# Altium footprint library 2440PCBV3.PcbLib: 58 footprints (part 3 of 4)
Each footprint in its own frame and in the unit in brackets; x right, y up, seen from the top. Pads: shape width x height; smd on the part's side, far side on the other; paste and mask are expansions set on the pad; w line width, h text height; cw(c..) or ccw(c..) is an arc to the next point about the centre after c.
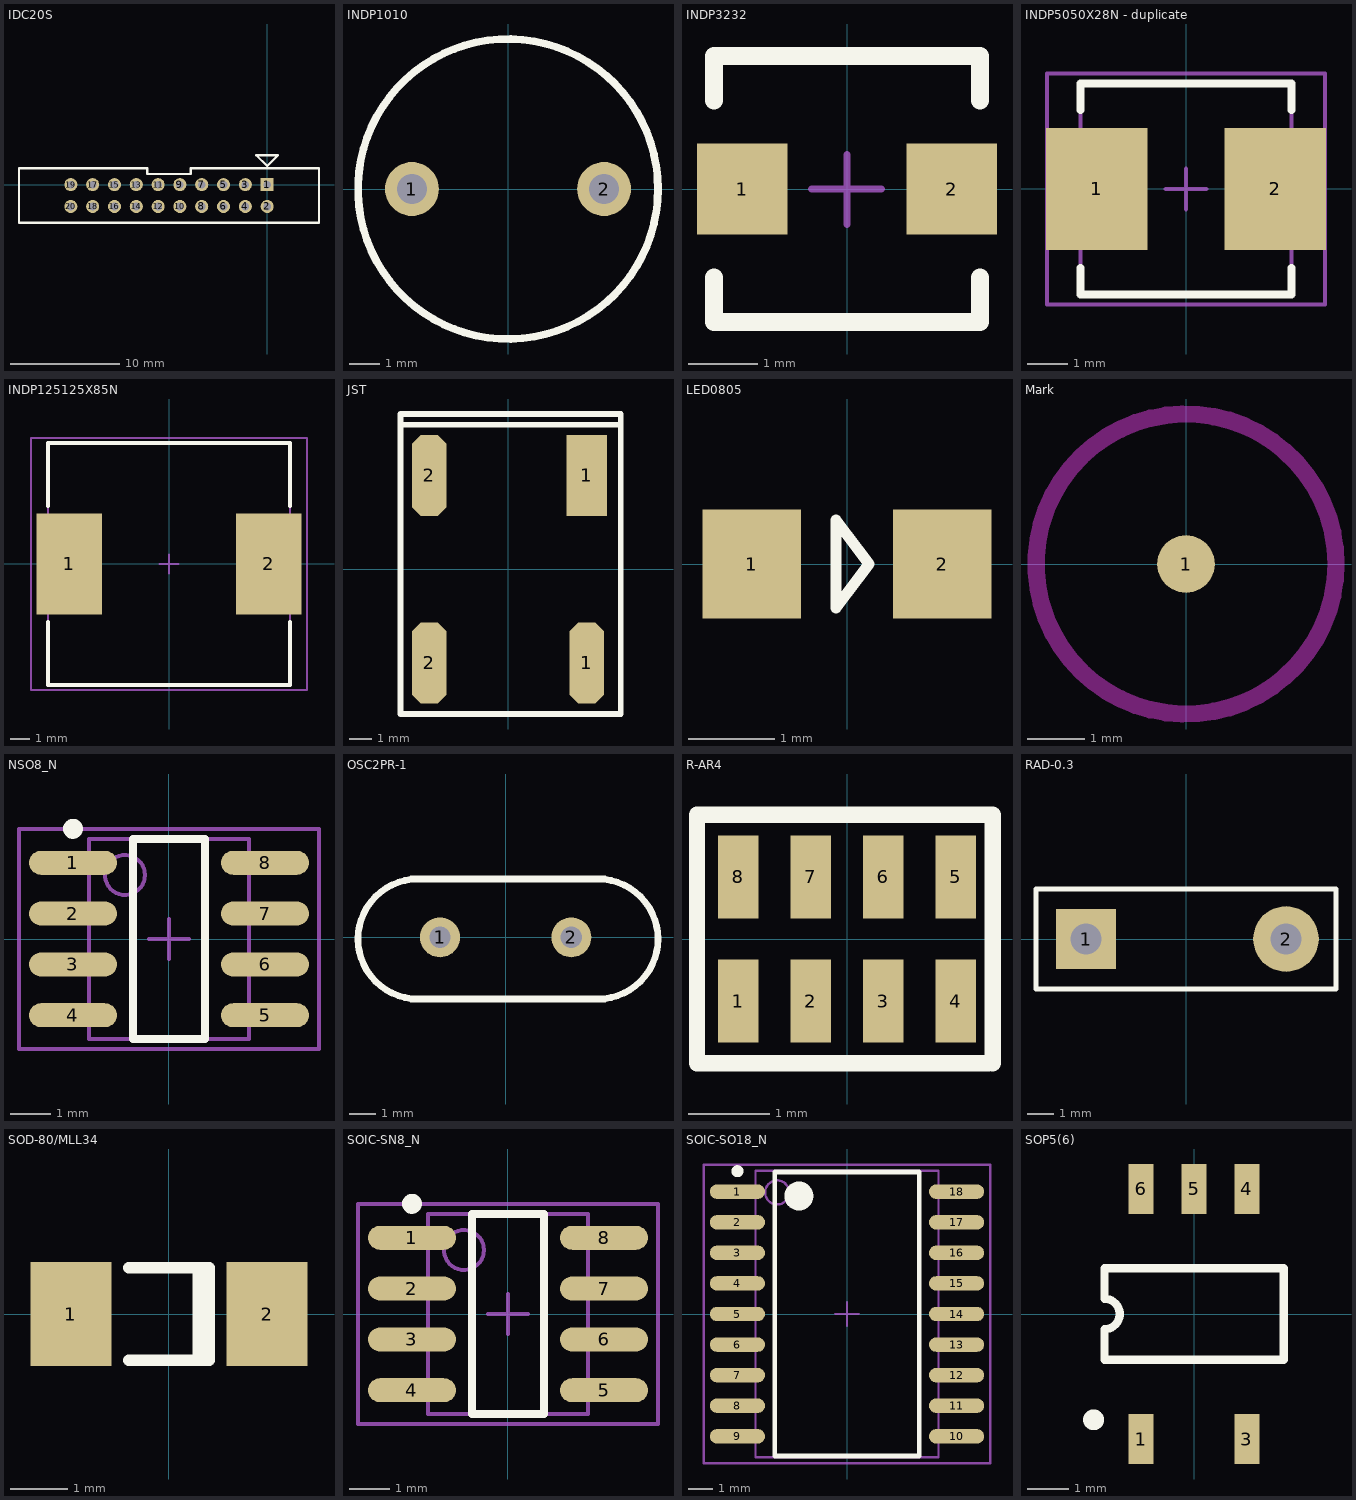
[diagram p2: the footprints below, top view; thin cyan lines are the x and y axes]

## IDC20S [mm]
pads (20):
  rect 1.2x1.2 hole 0.7: 1(0.002,0.017)
  round 1.2 hole 0.7: 2(0.002,-1.983) 3(-1.998,0.017) 4(-1.998,-1.983) 5(-3.998,0.017) 6(-3.998,-1.983) 7(-5.998,0.017) 8(-5.998,-1.983) 9(-7.998,0.017) 10(-7.998,-1.983) 11(-9.998,0.017) 12(-9.998,-1.983) 13(-11.998,0.017) 14(-11.998,-1.983) 15(-13.998,0.017) 16(-13.998,-1.983) 17(-15.998,0.017) 18(-15.998,-1.983) 19(-17.998,0.017) 20(-17.998,-1.983)
Top Overlay:
  lines w0.2: -22.748,-3.483 -22.748,1.517 -10.998,1.517 -10.998,0.992 -6.998,0.992 -6.998,1.517 4.752,1.517 4.752,-3.483 -22.748,-3.483 ; -0.998,2.717 0.002,1.717 1.002,2.717 -0.998,2.717
3D body: height 0, standoff 0, extent -18.856,-2.841 0.86,0.875

## INDP1010 [mm]
pads (2):
  round 1.8 hole 1: 1(-3.201,0) 2(3.202,0)
Top Overlay:
  circle w0.254: c0,0 r5
3D body: height 13.5, standoff 3.5, extent -5.01,-5.01 5.01,5.01

## INDP3232 [mm]
height 12
pads (2):
  rect 1.3x1.3 smd: 1(-1.5,0) 2(1.5,0)
Top Overlay:
  lines w0.254: -1.905,-1.27 -1.905,-1.905 1.905,-1.905 1.905,-1.27 ; -1.905,1.27 -1.905,1.905 1.905,1.905 1.905,1.27
Mechanical 15:
  lines w0.1: -0.508,0 0.492,0 ; 0,-0.508 0,0.492
3D body: height 2, standoff 0, extent -2.152,-2.176 2.2,2.176

## INDP5050X28N - duplicate [mm]
pads (2):
  rect 2.5x3 smd: 1(-2.2,0) 2(2.2,0)
Top Overlay:
  lines w0.2: -2.6,-1.95 -2.6,-2.6 2.6,-2.6 2.6,-1.95 ; -2.6,1.95 -2.6,2.6 2.6,2.6 2.6,1.95
Mechanical 13:
  lines w0.1: -2.6,-2.6 -2.6,2.6 2.6,2.6 2.6,-2.6 -2.6,-2.6
Mechanical 15:
  lines w0.1: -0.5,0 0.5,0 ; 0,-0.5 0,0.5 ; -3.425,-2.85 -3.425,2.85 3.425,2.85 3.425,-2.85 -3.425,-2.85
3D body: height 2, standoff 0, extent -1.565,-1.533 1.512,1.544

## INDP125125X85N [mm]
pads (2):
  rect 3.4x5.2 smd: 1(-5.15,0) 2(5.15,0)
Top Overlay:
  lines w0.2: -6.25,-3 -6.25,-6.25 6.25,-6.25 6.25,-3 ; -6.25,3 -6.25,6.25 6.25,6.25 6.25,3
Mechanical 13:
  lines w0.1: -6.25,-6.25 -6.25,6.25 6.25,6.25 6.25,-6.25 -6.25,-6.25
Mechanical 15:
  lines w0.1: -0.5,0 0.5,0 ; 0,-0.5 0,0.5 ; -7.125,-6.5 -7.125,6.5 7.125,6.5 7.125,-6.5 -7.125,-6.5
3D body: height 5.5, standoff -0.64, extent -6.114,-6.13 6.186,6.17

## JST [mm]
pads (4):
  oct 1.524x3.6 smd: 1(3.5,-4.161) 2(-3.5,-4.161) 2(-3.5,4.161)
  rect 1.8x3.6 smd: 1(3.5,4.161)
Top Overlay:
  lines w0.254: -4.751,6.406 4.999,6.406 ; 4.952,-6.425 -4.769,-6.425 -4.769,6.889 4.952,6.889 ; 4.999,-6.425 4.999,6.889
3D body: height 1.27, standoff 0, extent -4.845,-6.407 4.992,6.953

## LED0805 [mm]
pads (2):
  rect 1.143x1.27 smd: 1(-1.105,0) 2(1.105,0)
Top Overlay:
  lines w0.127: -0.127,-0.508 -0.127,0.508 0.254,0 -0.127,-0.508
3D body: height 0.85, standoff 0.01, extent -1.031,-0.459 1.031,0.447

## Mark [mm]
height 0.55
pads (1):
  round 1 smd paste+0 mask+2: 1(0,0)
Top Layer keep-out:
  circle w0.3: c0,0 r2.6

## NSO8_N [mm]
height 1.75
pads (8):
  oval 2.2x0.6 smd: 1(-2.4,1.905) 2(-2.4,0.635) 3(-2.4,-0.635) 4(-2.4,-1.905) 5(2.4,-1.905) 6(2.4,-0.635) 7(2.4,0.635) 8(2.4,1.905)
Top Overlay:
  circle w0.25: c-2.4,2.755 r0.125
  lines w0.2: -0.9,-2.5 -0.9,2.5 0.9,2.5 0.9,-2.5 -0.9,-2.5
Mechanical 13:
  circle w0.1: c-1.1,1.6 r0.5
  lines w0.1: -2,-2.5 -2,2.5 2,2.5 2,-2.5 -2,-2.5
Mechanical 15:
  lines w0.1: -0.5,0 0.5,0 ; 0,-0.5 0,0.5 ; -3.75,-2.75 -3.75,2.75 3.75,2.75 3.75,-2.75 -3.75,-2.75
3D body: height 1.75, standoff 0, extent -2,-2.5 2,2.5

## OSC2PR-1 [mil]
height 118.11
pads (2):
  round 60 hole 32: 1(-98.5,0) 2(98.5,0)
Top Overlay:
  lines w10: -141.5,-92.5 148.5,-92.5 ; -141.5,87.5 148.5,87.5 ; -131.5,-92.5 cw(c-131.5,-2.5) -131.5,87.5 ; 138.5,-92.5 ccw(c138.5,-2.5) 138.5,87.5
3D body: height 137.8, standoff -157.48, extent -220.21,-93.6 226.64,89.47

## R-AR4 [mil]
pads (8):
  rect 19.68x40 smd: 1(-52.5,-30) 2(-17.5,-30) 3(17.5,-30) 4(52.5,-30) 5(52.5,30) 6(17.5,30) 7(-17.5,30) 8(-52.5,30)
Top Overlay:
  lines w7.87: 68.5,-60 -72.5,-60 -72.5,60 70.5,60 70.5,-60
3D body: height 21.65, standoff 0, extent -62.59,-32.74 63.39,30.25

## RAD-0.3 [mm]
pads (2):
  rect 2.3x2.3 hole 1.2: 1(-3.81,0)
  round 2.5 hole 1.2: 2(3.81,0)
Top Overlay:
  lines w0.2: -5.715,-1.905 5.715,-1.905 5.715,1.905 -5.715,1.905 -5.715,-1.905

## SOD-80/MLL34 [mm]
height 1.7
pads (2):
  rect 1.4x1.8 smd: 1(-1.7,0) 2(1.7,0)
Top Overlay:
  lines w0.2: -0.7,-0.8 0.7,-0.8 0.7,0.8 -0.7,0.8 ; 0.51,-0.8 0.51,0.8
3D body: height 0.77, standoff -0.77, extent -1.662,-0.768 1.691,0.772

## SOIC-SN8_N [mm]
height 1.75
pads (8):
  oval 2.2x0.6 smd: 1(-2.4,1.905) 2(-2.4,0.635) 3(-2.4,-0.635) 4(-2.4,-1.905) 5(2.4,-1.905) 6(2.4,-0.635) 7(2.4,0.635) 8(2.4,1.905)
Top Overlay:
  circle w0.25: c-2.4,2.755 r0.125
  lines w0.2: -0.9,-2.5 0.9,-2.5 0.9,2.5 -0.9,2.5 -0.9,-2.5
Mechanical 13:
  circle w0.1: c-1.1,1.6 r0.5
  lines w0.1: -2,-2.5 2,-2.5 2,2.5 -2,2.5 -2,-2.5
Mechanical 15:
  lines w0.1: -0.5,0 0.5,0 ; 0,-0.5 0,0.5 ; -3.75,-2.75 3.75,-2.75 3.75,2.75 -3.75,2.75 -3.75,-2.75
3D body: height 1.7, standoff 0, extent -3,-2.45 3,2.45

## SOIC-SO18_N [mm]
height 2.65
pads (18):
  oval 2.3x0.6 smd: 1(-4.55,5.08) 2(-4.55,3.81) 3(-4.55,2.54) 4(-4.55,1.27) 5(-4.55,0) 6(-4.55,-1.27) 7(-4.55,-2.54) 8(-4.55,-3.81) 9(-4.55,-5.08) 10(4.55,-5.08) 11(4.55,-3.81) 12(4.55,-2.54) 13(4.55,-1.27) 14(4.55,0) 15(4.55,1.27) 16(4.55,2.54) 17(4.55,3.81) 18(4.55,5.08)
Top Overlay:
  circle w0.25: c-4.55,5.93 r0.125
  circle w0.6: c-2,4.9 r0.3
  lines w0.2: -3,-5.9 -3,5.9 3,5.9 3,-5.9 -3,-5.9
Mechanical 13:
  circle w0.1: c-2.9,5.05 r0.5
  lines w0.1: -3.8,-5.95 -3.8,5.95 3.8,5.95 3.8,-5.95 -3.8,-5.95
Mechanical 15:
  lines w0.1: -0.5,0 0.5,0 ; 0,-0.5 0,0.5 ; -5.95,-6.2 -5.95,6.2 5.95,6.2 5.95,-6.2 -5.95,-6.2
3D body: height 2.65, standoff 0, extent -3.8,-5.95 3.8,5.95

## SOP5(6) [mm] "Small Outli"
height 2.4
pads (5):
  rect 0.6x1.2 smd: 1(-1.27,-3) 3(1.27,-3) 4(1.27,3) 5(0,3) 6(-1.27,3)
Top Overlay:
  circle w0.25: c-2.411,-2.54 r0.125
  lines w0.2: -2.15,-1.1 -2.15,-0.367 ccw(c-2.15,0) -2.15,0.367 -2.15,1.1 2.15,1.1 2.15,-1.1 -2.15,-1.1